# Altium schematic symbol library LM358S-13.SchLib: 1 symbol
Pins are listed as number, name and electrical type; pins without a type are passive.

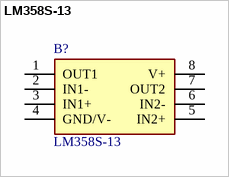
[diagram p0: symbol LM358S-13]

## LM358S-13
designator B?
Op Amp Dual 100dB 3-32V 1MHz SOIC8 DiodesZetex LM358S-13, Dual Op Amp, 1MHz Push-Pull, 3  32 V, 8-Pin SOP; Manufacturer_Name: Diodes Inc.; Geometry.Height: 1.75mm; Mouser Part Number: 621-LM358S-13; Mouser Price/Stock: https://www.mouser.co.uk/ProductDetail/Diodes-Incorporated/LM358S-13?qs=FRHfhEBFk1cUgiwjEgUNzQ%3D%3D; Manufacturer_Part_Number: LM358S-13; Datasheet Link: https://componentsearchengine.com/Datasheets/2/LM358S-13.pdf
footprint SOIC127P600X175-8N
pins: 1 OUT1, 2 IN1-, 3 IN1+, 4 GND/V-, 5 IN2+, 6 IN2-, 7 OUT2, 8 V+ (power)